# Altium schematic symbol library ICs.SchLib: 18 symbols
Pins are listed as number, name and electrical type; pins without a type are passive.

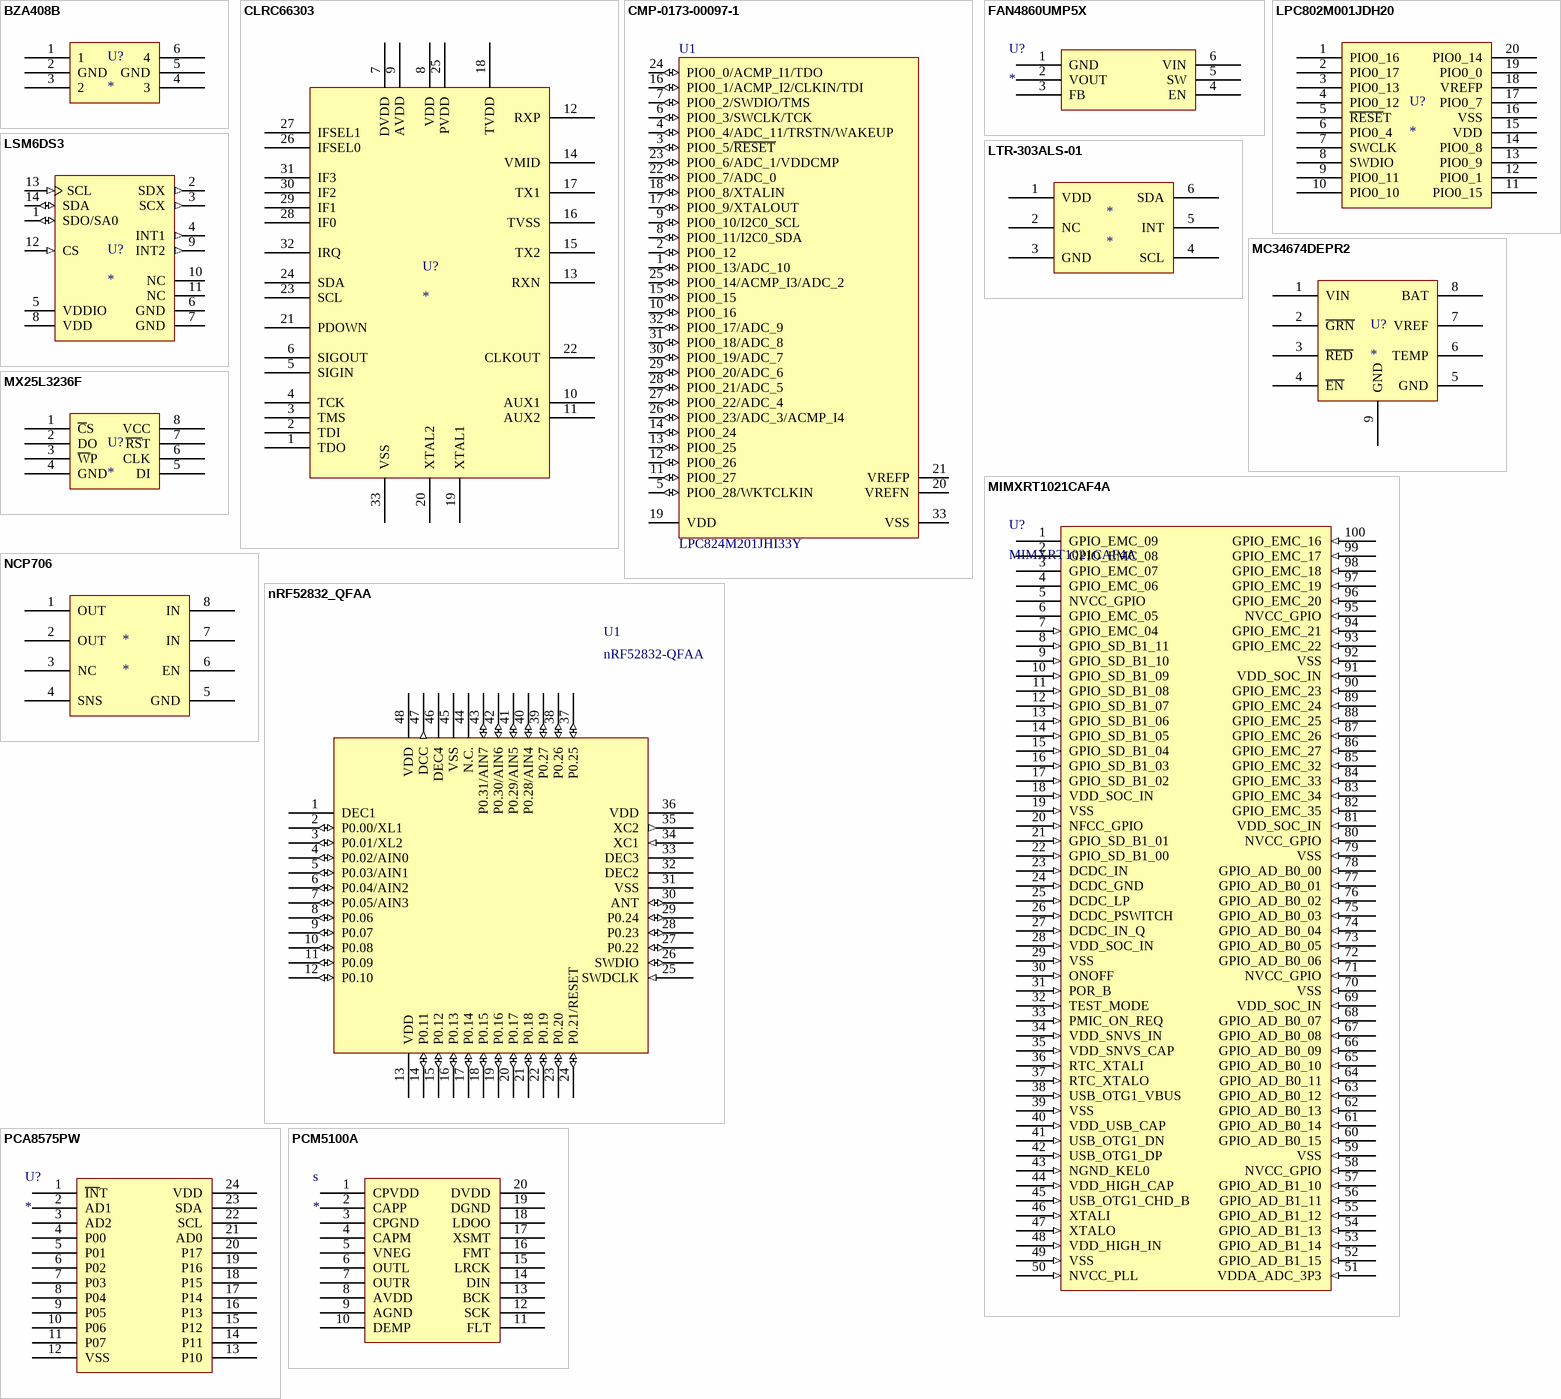
[diagram p0: symbols BZA408B to PCM5100A]

## BZA408B
designator U?
Quadruple bidirectional ESD transient voltage suppressor
pins: 1, 2 GND, 3 2, 4 3, 5 GND, 6 4

## CLRC66303
designator U?
RFID READER, 13.56MHZ, HVQFN-32; Supplier 1: Mouser; Supplier Part Number 1: 771-CLRC66303HNY
footprint HVQFN-32
pins: 1 TDO, 2 TDI, 3 TMS, 4 TCK, 5 SIGIN, 6 SIGOUT, 7 DVDD, 8 VDD, 9 AVDD, 10 AUX1, 11 AUX2, 12 RXP, 13 RXN, 14 VMID, 15 TX2, 16 TVSS, 17 TX1, 18 TVDD, 19 XTAL1, 20 XTAL2, 21 PDOWN, 22 CLKOUT, 23 SCL, 24 SDA, 25 PVDD, 26 IFSEL0, 27 IFSEL1, 28 IF0, 29 IF1, 30 IF2, 31 IF3, 32 IRQ, 33 VSS

## CMP-0173-00097-1
designator U1, comment LPC824M201JHI33Y
32-bit ARM Cortex-M0+ Microcontroller, 29 I/O, 32 KB Flash, 8 KB SRAM, -40 to 105 degC, 32-Pin HVQFN, Reel, RoHS; Manufacturer: NXP Semiconductors; RAM: 8 KB; Flash: 32 KB; Clock Speed: 30 MHz max.; ComponentLink1Description: Manufacturer URL; Mounting Technology: Surface Mount; Packing: Reel; Code_JEDEC: MO-220; ComponentLink2Description: Datasheet; PartNumber: LPC824M201JHI33; DatasheetVersion: Rev. 1; Core: Cortex-M0+; ComponentLink3Description: Package Specification; ComponentLink3URL: http://www.nxp.com/documents/outline_drawing/sot617-3_po.pdf; PackageDescription: 32-Pin Plastic Thermal Enhanced Very Thin Quad Flat Package, Body 5 x 5 mm, Pitch 0.5 mm; PackageVersion: 11-06-21, 06/2011; ComponentLink2URL: http://www.nxp.com/documents/data_sheet/LPC82X.pdf; ComponentLink1URL: www.nxp.com
footprint NXP-SOT617-3_N-adj (QFN, 32-Leads, Body 5x5mm, Pitch 0.5mm, Thermal Pad 3.6x3.6mm, IPC Medium Density)
pins: 1 PIO0_13/ADC_10 (io), 2 PIO0_12 (io) "PIO0_12 - General-purpose port 0 input/output 12. ISP entry pin. A LOW level on this pin during reset starts the ISP command handler.", 3 PIO0_5/~{RESET} (io), 4 PIO0_4/ADC_11/TRSTN/WAKEUP (io), 5 PIO0_28/WKTCLKIN (io), 6 PIO0_3/SWCLK/TCK (io), 7 PIO0_2/SWDIO/TMS (io), 8 PIO0_11/I2C0_SDA (io), 9 PIO0_10/I2C0_SCL (io), 10 PIO0_16 (io) "PIO0_16 - General-purpose port 0 input/output 16.", 11 PIO0_27 (io) "PIO0_27 - General-purpose port 0 input/output 27.", 12 PIO0_26 (io) "PIO0_26 - General-purpose port 0 input/output 26.", 13 PIO0_25 (io) "PIO0_25 - General-purpose port 0 input/output 25.", 14 PIO0_24 (io) "PIO0_24 - General-purpose port 0 input/output 24.", 15 PIO0_15 (io) "PIO0_15 - General-purpose port 0 input/output 15.", 16 PIO0_1/ACMP_I2/CLKIN/TDI (io), 17 PIO0_9/XTALOUT (io), 18 PIO0_8/XTALIN (io), 19 VDD (power) "Supply voltage for the I/O pad ring, the core voltage regulator, and the analog peripherals.", 20 VREFN (power) "ADC negative reference voltage.", 21 VREFP (power) "ADC positive reference voltage. Must be equal or lower than VDD.", 22 PIO0_7/ADC_0 (io), 23 PIO0_6/ADC_1/VDDCMP (io), 24 PIO0_0/ACMP_I1/TDO (io), 25 PIO0_14/ACMP_I3/ADC_2 (io), 26 PIO0_23/ADC_3/ACMP_I4 (io), 27 PIO0_22/ADC_4 (io), 28 PIO0_21/ADC_5 (io), 29 PIO0_20/ADC_6 (io), 30 PIO0_19/ADC_7 (io), 31 PIO0_18/ADC_8 (io), 32 PIO0_17/ADC_9 (io), 33 VSS (power) "Ground."

## FAN4860UMP5X
designator U?
Synchronous Boost, Step Up, Switching Regulator, Fixed, 2.3V to 4.5V, 5V/0.4A Out, 3MHz, UMLP-6; Supplier 1: Farnell; Supplier Part Number 1: 2822583
footprint UMLP6 (SON, 6-Leads, Body 2,05x2,00mm, Pitch 0,65mm, Thermal Pad 1,40x0,75mm, IPC Medium Density)
pins: 1 GND, 2 VOUT, 3 FB, 4 EN, 5 SW, 6 VIN, 7 GND hidden

## LPC802M001JDH20
designator U?
32-bit Arm® Cortex®-M0+ microcontroller
footprint TSSOP20
pins: 1 PIO0_16, 2 PIO0_17, 3 PIO0_13, 4 PIO0_12, 5 ~{RESE}T, 6 PIO0_4, 7 SWCLK, 8 SWDIO, 9 PIO0_11, 10 PIO0_10, 11 PIO0_15, 12 PIO0_1, 13 PIO0_9, 14 PIO0_8, 15 VDD, 16 VSS, 17 PIO0_7, 18 VREFP, 19 PIO0_0, 20 PIO0_14

## LSM6DS3
designator U?
Motion sensor
footprint LGA-14
pins: 1 SDO/SA0 (io), 2 SDX (out) "Connect to VDDIO or GND/I2C serial data master (MSDA)", 3 SCX (out) "Connect to VDDIO or GND/I2C serial clock master (MSCL)", 4 INT1 (out) "Programmable interrupt 1", 5 VDDIO (power) "Power supply for I/O pins", 6 GND (power) "0 V supply", 7 GND (power) "0 V supply", 8 VDD (power) "Power supply", 9 INT2 (out) "Programmable interrupt 2  (INT2) / Data enable (DEN)/Programmable interrupt 2 (INT2)/  Data enable (DEN)/  I  2C master external synchronization  signal (MDRDY)", 10 NC "Leave unconnected", 11 NC "Leave unconnected", 12 CS (in) "I2C/SPI mode selection", 13 SCL (in) "I2C serial clock (SCL)  SPI serial port clock (SPC)", 14 SDA (io) "I2C serial data (SDA)  SPI serial data input (SDI)  3-wire interface serial data output  (SDO)"

## LTR-303ALS-01
designator *
Optical Sensor
footprint LTR-303ALS-01
pins: 1 VDD, 2 NC, 3 GND, 4 SCL, 5 INT, 6 SDA

## MC34674DEPR2
designator U?
High Input Voltage Travel Charger for Single-cell Li-Ion Batteries, 0.45mA; Supplier 1: Mouser; Supplier Part Number 1: 841-MC34674DEPR2
footprint UDFN8
pins: 1 VIN (power), 2 ~{GRN} (oc), 3 ~{RED} (oc), 4 ~{EN}, 5 GND (power), 6 TEMP, 7 VREF, 8 BAT, 9 GND (power)

## MIMXRT1021CAF4A
designator U?
i.MX RT1020 Crossover Processor with Arm® Cortex®-M7 core; Supplier 1: Farnell; Supplier Part Number 1: 2894163
footprint LQFP100 (Low profile quad flat package; 100 terminals; 0.5 mm pitch; 14 mm x 14 mm x 1.7 mm body)
pins: 1 GPIO_EMC_09, 2 GPIO_EMC_08, 3 GPIO_EMC_07, 4 GPIO_EMC_06, 5 NVCC_GPIO, 6 GPIO_EMC_05, 7 GPIO_EMC_04 (in), 8 GPIO_SD_B1_11 (in), 9 GPIO_SD_B1_10 (in), 10 GPIO_SD_B1_09 (in), 11 GPIO_SD_B1_08 (in), 12 GPIO_SD_B1_07 (in), 13 GPIO_SD_B1_06 (in), 14 GPIO_SD_B1_05 (in), 15 GPIO_SD_B1_04 (in), 16 GPIO_SD_B1_03 (in), 17 GPIO_SD_B1_02 (in), 18 VDD_SOC_IN (in), 19 VSS (in), 20 NFCC_GPIO (in), 21 GPIO_SD_B1_01 (in), 22 GPIO_SD_B1_00 (in), 23 DCDC_IN (in), 24 DCDC_GND (in), 25 DCDC_LP (in), 26 DCDC_PSWITCH (in), 27 DCDC_IN_Q (in), 28 VDD_SOC_IN (in), 29 VSS (in), 30 ONOFF (in), 31 POR_B (in), 32 TEST_MODE (in), 33 PMIC_ON_REQ (in), 34 VDD_SNVS_IN (in), 35 VDD_SNVS_CAP (in), 36 RTC_XTALI (in), 37 RTC_XTALO (in), 38 USB_OTG1_VBUS (in), 39 VSS (in), 40 VDD_USB_CAP (in), 41 USB_OTG1_DN (in), 42 USB_OTG1_DP (in), 43 NGND_KEL0 (in), 44 VDD_HIGH_CAP (in), 45 USB_OTG1_CHD_B (in), 46 XTALI (in), 47 XTALO (in), 48 VDD_HIGH_IN (in), 49 VSS (in), 50 NVCC_PLL (in), 51 VDDA_ADC_3P3 (in), 52 GPIO_AD_B1_15 (in), 53 GPIO_AD_B1_14 (in), 54 GPIO_AD_B1_13 (in), 55 GPIO_AD_B1_12 (in), 56 GPIO_AD_B1_11 (in), 57 GPIO_AD_B1_10 (in), 58 NVCC_GPIO (in), 59 VSS (in), 60 GPIO_AD_B0_15 (in), 61 GPIO_AD_B0_14 (in), 62 GPIO_AD_B0_13 (in), 63 GPIO_AD_B0_12 (in), 64 GPIO_AD_B0_11 (in), 65 GPIO_AD_B0_10 (in), 66 GPIO_AD_B0_09 (in), 67 GPIO_AD_B0_08 (in), 68 GPIO_AD_B0_07 (in), 69 VDD_SOC_IN (in), 70 VSS (in), 71 NVCC_GPIO (in), 72 GPIO_AD_B0_06 (in), 73 GPIO_AD_B0_05 (in), 74 GPIO_AD_B0_04 (in), 75 GPIO_AD_B0_03 (in), 76 GPIO_AD_B0_02 (in), 77 GPIO_AD_B0_01 (in), 78 GPIO_AD_B0_00 (in), 79 VSS (in), 80 NVCC_GPIO (in), 81 VDD_SOC_IN (in), 82 GPIO_EMC_35 (in), 83 GPIO_EMC_34 (in), 84 GPIO_EMC_33 (in), 85 GPIO_EMC_32 (in), 86 GPIO_EMC_27 (in), 87 GPIO_EMC_26 (in), 88 GPIO_EMC_25 (in), 89 GPIO_EMC_24 (in), 90 GPIO_EMC_23 (in), 91 VDD_SOC_IN (in), 92 VSS (in), 93 GPIO_EMC_22 (in), 94 GPIO_EMC_21 (in), 95 NVCC_GPIO (in), 96 GPIO_EMC_20 (in), 97 GPIO_EMC_19 (in), 98 GPIO_EMC_18 (in), 99 GPIO_EMC_17 (in), 100 GPIO_EMC_16 (in)

## MX25L3236F
designator U?
NOR Flash Serial-SPI 3V/3.3V 32M-bit 4M x 8 8.5ns 8-Pin 8-SOP
footprint SOP-8
pins: 1 ~{C}S, 2 DO, 3 ~{W}P, 4 GND, 5 DI, 6 CLK, 7 ~{RS}T, 8 VCC

## NCP706
designator *
footprint XDFN8
pins: 1 OUT, 2 OUT, 3 NC, 4 SNS, 5 GND, 6 EN, 7 IN, 8 IN, 9 GND hidden to GND

## nRF52832_QFAA
designator U1, comment nRF52832-QFAA
Multi-protocol Bluetooth Low Energy and 2.4GHz proprietary system-on-chip; Manufacturer: Nordic Semiconductor; Artikkelnr Noca: N.A.; Part Number: nRF52832-QFAA; Manufacturer Part Number: nRF52832-QFAA; Datasheet: *; LatestRevisionDate: 2014-11-26; Pin Count: 48; Publisher: Nordic Semiconductor; Published: 2014-11-26; Value: nRF52832-QFAA; Note: *; Supplier: Nordic Semiconductor; Supplier part number: *; 2nd source Supplier: *; 2nd source part number: *; Footprint Doc: QFN-48; Artikkelnr Simpro: N.A.
footprint QFN48P600X600X90-48N - duplicate (QFN, 48-Leads, Body 6,0x6,0mm (max), Pitch 0,40mm, IPC Medium Density)
pins: 1 DEC1 (power), 2 P0.00/XL1 (io), 3 P0.01/XL2 (io), 4 P0.02/AIN0 (io), 5 P0.03/AIN1 (io), 6 P0.04/AIN2 (io), 7 P0.05/AIN3 (io), 8 P0.06 (io), 9 P0.07 (io), 10 P0.08 (io), 11 P0.09 (io), 12 P0.10 (io), 13 VDD (power), 14 P0.11 (io), 15 P0.12 (io), 16 P0.13 (io), 17 P0.14 (io), 18 P0.15 (io), 19 P0.16 (io), 20 P0.17 (io), 21 P0.18 (io), 22 P0.19 (io), 23 P0.20 (io), 24 P0.21/RESET (io), 25 SWDCLK (in), 26 SWDIO (io), 27 P0.22 (io), 28 P0.23 (io), 29 P0.24 (io), 30 ANT (io), 31 VSS (power), 32 DEC2 (power), 33 DEC3 (power), 34 XC1 (in), 35 XC2 (out), 36 VDD (power), 37 P0.25 (io), 38 P0.26 (io), 39 P0.27 (io), 40 P0.28/AIN4 (io), 41 P0.29/AIN5 (io), 42 P0.30/AIN6 (io), 43 P0.31/AIN7 (io), 44 N.C. (power), 45 VSS (power), 46 DEC4 (power), 47 DCC (out), 48 VDD (power), 49 GND (power) hidden to GND

## PCA8575PW
designator U?
Remote 16-bit I/O expander for I2C-bus with interrupt; Supplier 1: Farnell; Supplier Part Number 1: 2776157
footprint TSSOP24-PCA8575 (TSOP, 24-Leads, Body 7.80x4.40mm, Pitch 0.65mm, IPC Medium Density)
pins: 1 ~{IN}T, 2 AD1, 3 AD2, 4 P00, 5 P01, 6 P02, 7 P03, 8 P04, 9 P05, 10 P06, 11 P07, 12 VSS, 13 P10, 14 P11, 15 P12, 16 P13, 17 P14, 18 P15, 19 P16, 20 P17, 21 AD0, 22 SCL, 23 SDA, 24 VDD

## PCM5100A
designator s
Audio Stereo DAC with PLL and 32-bit, 384 kHz PCM Interface; Supplier 1: Farnell; Supplier Part Number 1: 2496328
footprint TSSOP20_PCM5100A (TSOP, 20-Leads, Body 6.50x4.40mm, Pitch 0.65mm, IPC Medium Density)
pins: 1 CPVDD, 2 CAPP, 3 CPGND, 4 CAPM, 5 VNEG, 6 OUTL, 7 OUTR, 8 AVDD, 9 AGND, 10 DEMP, 11 FLT, 12 SCK, 13 BCK, 14 DIN, 15 LRCK, 16 FMT, 17 XSMT, 18 LDOO, 19 DGND, 20 DVDD

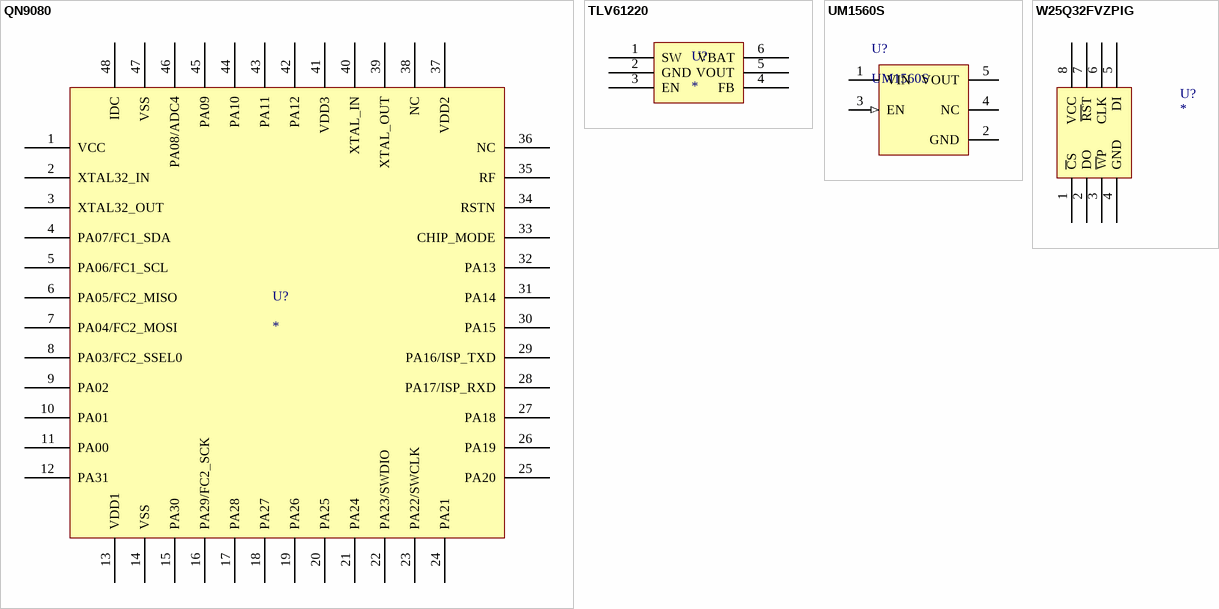
[diagram p1: symbols QN9080 to W25Q32FVZPIG]

## QN9080
designator U?
BLE microcontroller with 32-bit ARM Cortex-M4; Supplier 1: Mouser; Supplier Part Number 1: 771-QN9080CHNY
footprint QFN48P600X600X90-48N - duplicate (QFN, 48-Leads, Body 6,0x6,0mm (max), Pitch 0,40mm, IPC Medium Density)
pins: 1 VCC, 2 XTAL32_IN, 3 XTAL32_OUT, 4 PA07/FC1_SDA, 5 PA06/FC1_SCL, 6 PA05/FC2_MISO, 7 PA04/FC2_MOSI, 8 PA03/FC2_SSEL0, 9 PA02, 10 PA01, 11 PA00, 12 PA31, 13 VDD1 (power), 14 VSS (power), 15 PA30, 16 PA29/FC2_SCK, 17 PA28, 18 PA27, 19 PA26, 20 PA25, 21 PA24, 22 PA23/SWDIO, 23 PA22/SWCLK, 24 PA21, 25 PA20, 26 PA19, 27 PA18, 28 PA17/ISP_RXD, 29 PA16/ISP_TXD, 30 PA15, 31 PA14, 32 PA13, 33 CHIP_MODE, 34 RSTN, 35 RF, 36 NC, 37 VDD2, 38 NC, 39 XTAL_OUT, 40 XTAL_IN, 41 VDD3 (power), 42 PA12, 43 PA11, 44 PA10, 45 PA09, 46 PA08/ADC4, 47 VSS (power), 48 IDC (power), 49 GND (power) hidden to GND

## TLV61220
designator U?
Low-Input Voltage Step-Up Converter
footprint SOT23-6P95_280X145L45X37N
pins: 1 SW, 2 GND, 3 EN, 4 FB, 5 VOUT, 6 VBAT

## UM1560S
designator U?
Single LDO, 1.8 to 8 V, Fixed Out 3.3 V, 0.3 A, -40 to 125 degC, 5-Pin SOT-23 (M5), RoHS, Tape and Reel
footprint SOT23-5
pins: 1 VIN (power) "Supply Input", 2 GND (power) "Ground", 3 EN (in) "Enable Input: Active High. High=ON; low=OFF. MIC5504 have an internal pull-down and this pin may be left floating.", 4 NC "No Connection. Pin is not internally connected.", 5 VOUT (power) "Output Voltage. When disable the MIC5504 switches in an internal 25 ohm load to discharge the external capacitors."

## W25Q32FVZPIG
designator U?
NOR Flash Serial-SPI 3V/3.3V 32M-bit 4M x 8 8.5ns 8-Pin WSON EP
footprint WSON8
pins: 1 ~{C}S, 2 DO, 3 ~{W}P, 4 GND, 5 DI, 6 CLK, 7 ~{RS}T, 8 VCC, 9 hidden to GND